# Altium footprint library Led.PcbLib: 54 footprints (part 2 of 4)
Each footprint in its own frame and in the unit in brackets; x right, y up, seen from the top. Pads: shape width x height; smd on the part's side, far side on the other; paste and mask are expansions set on the pad; w line width, h text height; cw(c..) or ccw(c..) is an arc to the next point about the centre after c.
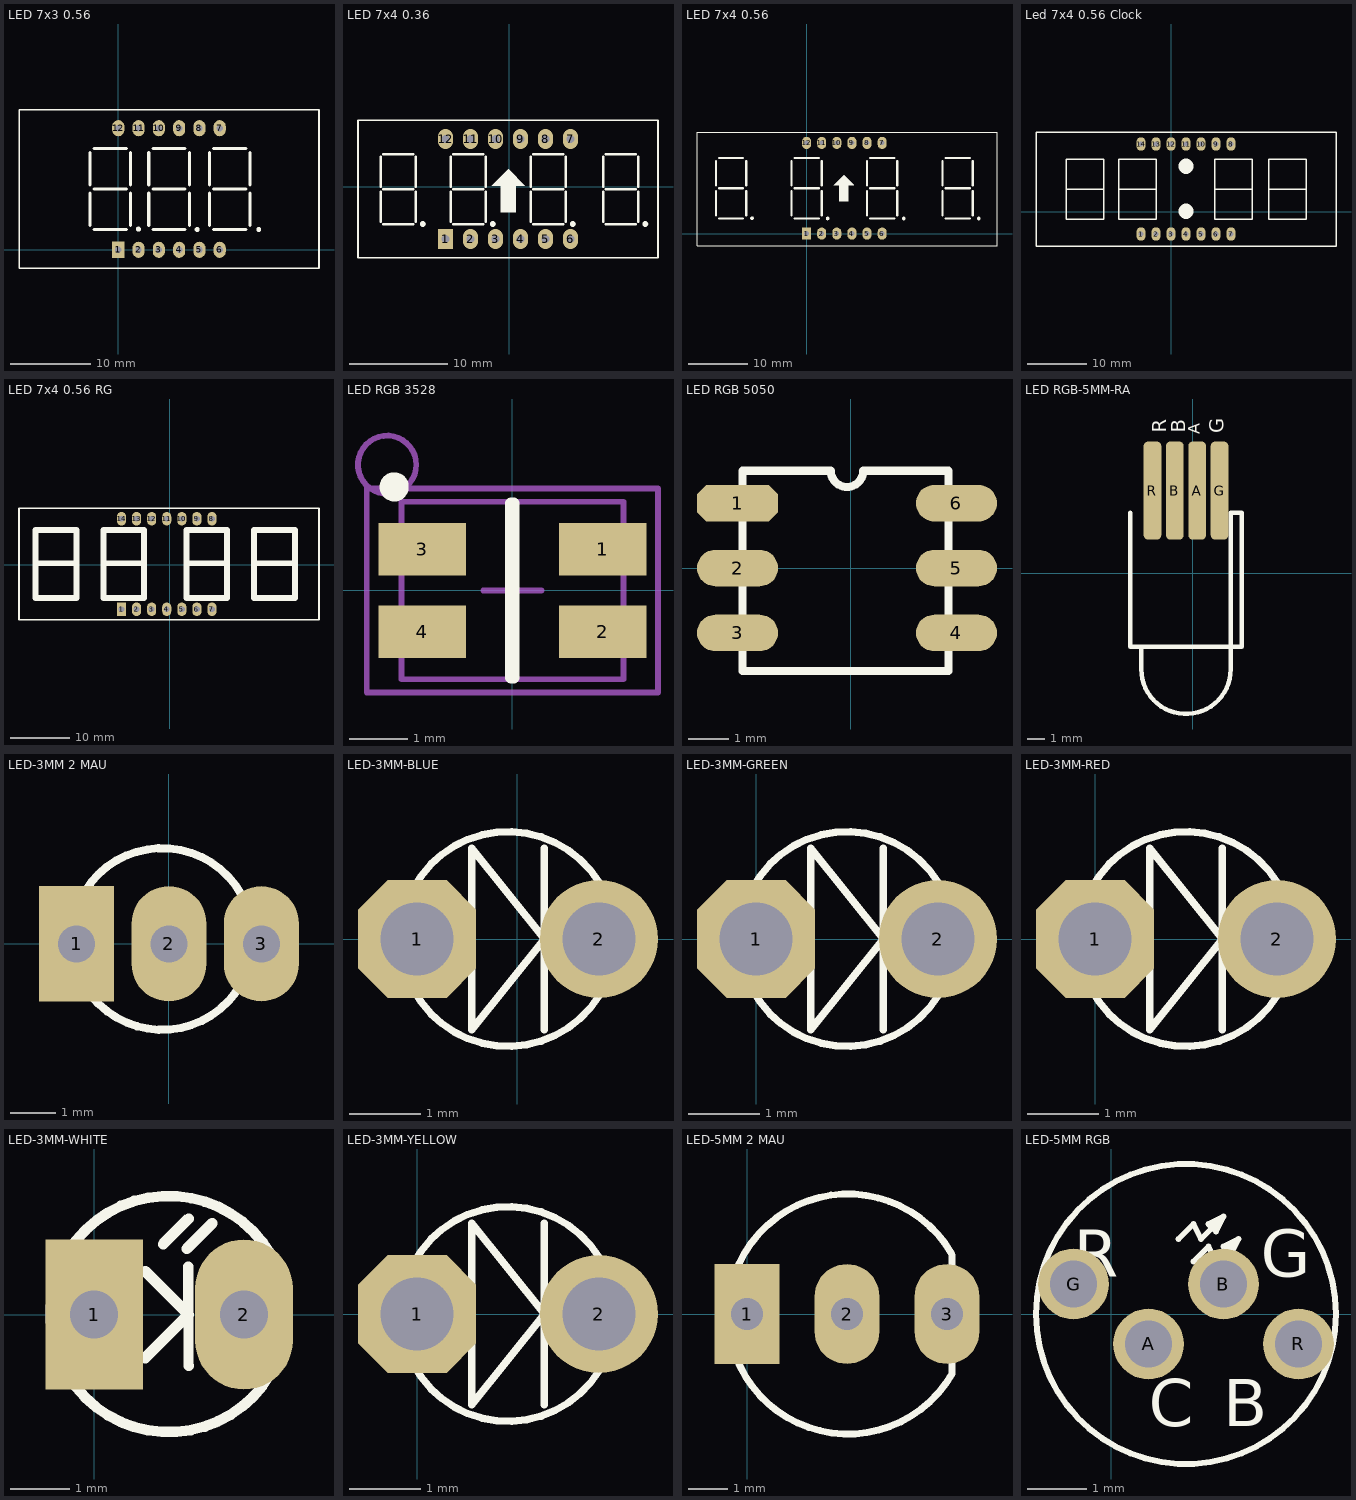
[diagram p1: the footprints below, top view; thin cyan lines are the x and y axes]

## LED 7x3 0.56 [mil]
height 300
pads (12):
  rect 60x80 hole 31: 1(0,0)
  oval 60x80 hole 31: 2(100,0) 3(200,0) 4(300,0) 5(400,0) 6(500,0) 7(500,600) 8(400,600) 9(300,600) 10(200,600) 11(100,600) 12(0,600)
Top Overlay:
  circle w12: c99,102 r6
  circle w12: c389,100 r6
  circle w12: c693,100 r6
  lines w7: 990,-90 -490,-90 -490,690 990,690
  lines w8: 990,-90 990,690
  lines w15: -140,120 -140,280 ; -140,120 -140,280 ; -140,120 -140,280 ; -140,120 -140,280 ; -140,320 -140,480 ; -140,320 -140,480 ; -140,320 -140,480 ; -140,320 -140,480 ; -120,300 40,300 ; -120,300 40,300 ; -120,300 40,300 ; -120,300 40,300 ; 60,120 60,280 ; 60,120 60,280 ; 60,120 60,280 ; 60,120 60,280 ; 60,320 60,480 ; 60,320 60,480 ; 60,320 60,480 ; 60,320 60,480 ; 150,120 150,280 ; 150,120 150,280 ; 150,120 150,280 ; 150,120 150,280 ; 150,320 150,480 ; 150,320 150,480 ; 150,320 150,480 ; 150,320 150,480 ; 170,300 330,300 ; 170,300 330,300 ; 170,300 330,300 ; 170,300 330,300 ; 350,120 350,280 ; 350,120 350,280 ; 350,120 350,280 ; 350,120 350,280 ; 350,320 350,480 ; 350,320 350,480 ; 350,320 350,480 ; 350,320 350,480 ; 450,120 450,280 ; 450,120 450,280 ; 450,120 450,280 ; 450,120 450,280 ; 450,120 450,280 ; 450,120 450,280 ; 450,120 450,280 ; 450,120 450,280 ; 450,320 450,480 ; 450,320 450,480 ; 450,320 450,480 ; 450,320 450,480 ; 450,320 450,480 ; 450,320 450,480 ; 450,320 450,480 ; 450,320 450,480 ; 470,100 630,100 ; 470,100 630,100 ; 470,100 630,100 ; 470,100 630,100 ; 470,300 630,300 ; 470,300 630,300 ; 470,300 630,300 ; 470,300 630,300 ; 470,300 630,300 ; 470,300 630,300 ; 470,300 630,300 ; 470,300 630,300 ; 470,500 630,500 ; 470,500 630,500 ; 470,500 630,500 ; 470,500 630,500 ; 650,120 650,280 ; 650,120 650,280 ; 650,120 650,280 ; 650,120 650,280 ; 650,120 650,280 ; 650,120 650,280 ; 650,120 650,280 ; 650,120 650,280 ; 650,320 650,480 ; 650,320 650,480 ; 650,320 650,480 ; 650,320 650,480 ; 650,320 650,480 ; 650,320 650,480 ; 650,320 650,480 ; 650,320 650,480 ; -120,100 40,100 -120,100 ; -120,500 40,500 -120,500 ; 170,100 330,100 170,100 ; 170,500 330,500 170,500

## LED 7x4 0.36 [mil]
height 300
pads (12):
  rect 60x80 hole 31: 1(-255,-210)
  oval 60x80 hole 31: 2(-155,-210) 3(-55,-210) 4(45,-210) 5(145,-210) 6(245,-210) 7(245,190) 8(145,190) 9(45,190) 10(-55,190) 11(-155,190) 12(-255,190)
Top Overlay:
  circle w12: c254,-150 r6
  circle w12: c544,-150 r6
  circle w12: c-346,-150 r6
  circle w12: c-66,-150 r6
  region: -71,3 -5,69 -3,69 62,4 62,3 25,3 25,-103 -34,-103 -34,3
  lines w7: -605,-285 -605,265 595,265 595,-285 -605,-285
  lines w10: -515,-140 -515,-20 ; -515,0 -515,120 ; -505,-150 -385,-150 ; -505,130 -385,130 ; -375,-140 -375,-20 ; -375,0 -375,120 ; -235,-140 -235,-20 ; -235,0 -235,120 ; -225,-150 -105,-150 ; -225,130 -105,130 ; -95,-140 -95,-20 ; -95,0 -95,120 ; 85,-140 85,-20 ; 85,0 85,120 ; 95,-150 215,-150 ; 95,130 215,130 ; 225,-140 225,-20 ; 225,0 225,120 ; 375,-140 375,-20 ; 375,0 375,120 ; 385,-150 505,-150 ; 385,130 505,130 ; 515,-140 515,-20 ; 515,0 515,120 ; -505,-10 -385,-10 -505,-10 ; -225,-10 -105,-10 -225,-10 ; 95,-10 215,-10 95,-10 ; 385,-10 505,-10 385,-10
3D body "User Library-7-seg-4_asm.STEP": height 169.69, standoff -350, extent -595.55,-291.18 585.55,260

## LED 7x4 0.56 [mil]
height 300
pads (12):
  rect 60x80 hole 31: 1(0,0)
  oval 60x80 hole 31: 2(100,0) 3(200,0) 4(300,0) 5(400,0) 6(500,0) 7(500,600) 8(400,600) 9(300,600) 10(200,600) 11(100,600) 12(0,600)
Top Overlay:
  drawing of 155 lines, arcs and shapes, not listed
3D body "7seg2-4.STEP": height 364.96, standoff -87.8, extent -740.31,-69.02 1240,679.02

## Led 7x4 0.56 Clock [mil]
pads (14):
  oval 60x90 hole 32: 1(-200,-150) 2(-100,-150) 3(0,-150) 4(100,-150) 5(200,-150) 6(300,-150) 7(400,-150) 8(400,450) 9(300,450) 10(200,450) 11(100,450) 12(0,450) 13(-100,450) 14(-200,450)
Top Overlay:
  lines w10: -700,150 -450,150 ; -350,150 -100,150 ; 290,150 540,150 ; 650,150 900,150 ; -900,-230 1100,-230 1100,530 -900,530 -900,-230 ; -700,-50 -700,350 -450,350 -450,-50 -700,-50 ; -350,-50 -350,350 -100,350 -100,-50 -350,-50 ; 290,-50 290,350 540,350 540,-50 290,-50 ; 650,-50 650,350 900,350 900,-50 650,-50
  lines w100: 100,0 ccw(c72,4) 100.28,4 ; 100,300 ccw(c72,304) 100.28,304
3D body "7seg clock.step": height 280.13, standoff -196.25, extent -890.15,-224.01 1090.16,524.02

## LED 7x4 0.56 RG [mil]
pads (14):
  rect 60x90 hole 39.37: 1(-320,-295)
  oval 60x90 hole 39.37: 2(-220,-295) 3(-120,-295) 4(-20,-295) 5(80,-295) 6(180,-295) 7(280,-295) 8(280,305) 9(180,305) 10(80,305) 11(-20,305) 12(-120,305) 13(-220,305) 14(-320,305)
Top Overlay:
  lines w10: -1000,-365 -1000,375 990,375 990,-365 -1000,-365
  lines w39.37: -885,10 -620,10 ; -435,10 -170,10 ; 115,10 380,10 ; 565,10 830,10 ; -890,-220 -890,230 -620,230 -620,-220 -890,-220 ; -440,-220 -440,230 -170,230 -170,-220 -440,-220 ; 110,-220 110,230 380,230 380,-220 110,-220 ; 560,-220 560,230 830,230 830,-220 560,-220
3D body "7seg2-4.STEP": height 364.96, standoff -87.8, extent -965.16,-370 1015.16,378.03

## LED RGB 3528 [mm] "Chip LED, 4-Leads, Body 2.8x3.5mm (max), Pitch 1.42mm, IPC Medium Density"
height 1.9
pads (4):
  rect 1.5x0.9 smd: 1(1.55,0.707) 2(1.55,-0.71) 3(-1.55,0.707) 4(-1.55,-0.707)
Top Overlay:
  circle w0.25: c-2.03,1.778 r0.125
  lines w0.2: -0.025,-1.5 0.025,-1.5 0.025,1.5 -0.025,1.5 -0.025,-1.5
Mechanical 13:
  circle w0.1: c-2.151,2.159 r0.5
  lines w0.1: -1.905,-1.524 1.905,-1.524 1.905,1.524 -1.905,1.524 -1.905,-1.524
Mechanical 15:
  lines w0.1: -0.5,0 0.5,0 ; 0,-0.5 0,0.5 ; -2.5,-1.75 2.5,-1.75 2.5,1.75 -2.5,1.75 -2.5,-1.75
3D body "WL-SBTW_1411_RV.stp": height 1.87, standoff -0.03, extent -1.75,-1.4 1.75,1.4

## LED RGB 5050 [mm]
pads (6):
  oct 2x0.9 smd: 1(-2.794,1.6)
  oval 2x0.9 smd: 2(-2.794,0) 3(-2.794,-1.6) 4(2.606,-1.6) 5(2.606,0) 6(2.606,1.6)
Top Overlay:
  lines w0.2: -2.667,-2.54 -2.667,2.4 -0.494,2.4 ccw(c-0.094,2.4) 0.306,2.4 2.413,2.4 2.413,-2.54 -2.667,-2.54
3D body "User Library-smd_led_5050.step": height 1.6, standoff 0, extent -2.777,-2.54 2.523,2.46

## LED RGB-5MM-RA [mil] "LED RGB Right Angle 5mm"
height 5
pads (4):
  rrect50% 39.37x220 smd paste+1.5 mask+1.5: A(10,185) B(-40,185) G(60,185) R(-90,185)
Top Overlay:
  lines w10: -140,135 -140,-165 110,-165 110,135 85,135 85,-165 85,-215 cw(c-15,-215) -115,-215 -115,-165
  text "G" at 69.77,313.32 h31.5
  text "A" at 24.77,311.4 h45
  text "R" at -58.97,314.49 h31.5
  text "B" at -16.79,314.49 h31.5
3D body: height 100, standoff -100, extent -115.18,-301.8 83.78,-102.65
3D body: height 99.8, standoff -99.8, extent -115.3,-198.8 83.91,1.2
3D body: height 5, standoff 0, extent -105.68,-298.7 74.45,281.58

## LED-3MM 2 MAU [mil] "LED 3 PIN, 3ly Two colour"
height 300
pads (3):
  rect 65x100 hole 32: 1(-80,0)
  oval 65x100 hole 32: 2(0,0) 3(80,0)
Top Overlay:
  lines w7: 63,-34 63,42
  lines w7.01: 62.87,42.48 ccw(c-5.92,4.16) 62.97,-33.98
3D body "User Library-LED RG.step": height 293.12, standoff -235.62, extent -88.58,-80 88.58,77.48

## LED-3MM-BLUE [mil]
pads (2):
  oct 65x65 hole 40: 1(-55,0)
  round 65 hole 40: 2(45,0)
Top Overlay:
  circle w4: c-5,0 r59.06
  lines w4: 15,-50 15,0 ; 15,50 15,0 ; 15,0 -25,-50 -25,50 15,0
3D body "User Library-LED_d3-BLU.STEP": height 184.06, standoff -110.24, extent -72.46,-64.95 54.06,64.96

## LED-3MM-GREEN [mil]
pads (2):
  oct 65x65 hole 40: 1(0,0)
  round 65 hole 40: 2(100,0)
Top Overlay:
  circle w4: c50,0 r59.06
  lines w4: 70,-50 70,0 ; 70,50 70,0 ; 70,0 30,50 30,-50 70,0
3D body "User Library-LED_d3-GRN.STEP": height 182.09, standoff -112.2, extent -15,-69.91 111.51,60

## LED-3MM-RED [mil]
pads (2):
  oct 65x65 hole 40: 1(0,0)
  round 65 hole 40: 2(100,0)
Top Overlay:
  circle w4: c50,0 r59.06
  lines w4: 70,-50 70,0 ; 70,50 70,0 ; 70,0 30,50 30,-50 70,0
3D body "User Library-LED-D3R.step": height 181.1, standoff -255.91, extent -27.18,-77.48 117.18,80

## LED-3MM-WHITE [mil] "LED 2 PIN, 3ly Only colour"
height 300
pads (2):
  rect 65x100 hole 32: 1(0,0)
  oval 65x100 hole 32: 2(100,0)
Top Overlay:
  lines w7: 34,-29 63,0 34,29 ; 46,47 63,64 ; 62,44 79,61 ; 63,-34 63,32 ; 117.92,-39.35 117.92,39.84
  lines w7.01: 117.57,-39.74 cw(c49.8,0.35) 117.72,40.19
3D body "SW3DPS-LED DIP 3MM-DEFAULT.STEP": height 217.14, standoff -117.51, extent -24.8,-74.81 112.99,74.8

## LED-3MM-YELLOW [mil]
pads (2):
  oct 65x65 hole 40: 1(0,0)
  round 65 hole 40: 2(100,0)
Top Overlay:
  circle w4: c50,0 r59.06
  lines w4: 70,-50 70,0 ; 70,50 70,0 ; 70,0 30,50 30,-50 70,0
3D body "User Library-LED-D3Y.step": height 181.1, standoff -255.91, extent -27.18,-77.48 117.18,80

## LED-5MM 2 MAU [mil] "LED 3 PIN, 5 ly , Two colour"
height 300
pads (3):
  rect 65x100 hole 32: 1(0,0)
  oval 65x100 hole 32: 2(100,0) 3(200,0)
Top Overlay:
  lines w7: 204.51,60.71 ccw(c101,0) 204.94,-59.97 ; 205,-59 205,59
3D body "User Library-5mmBiColorLED.step": height 426.6, standoff -102.4, extent -16,-115.98 210,115.98

## LED-5MM RGB [mm]
pads (4):
  round 1.2 hole 0.8: A(0.635,-0.508) B(1.905,0.508) G(-0.635,0.508) R(3.175,-0.508)
Top Overlay:
  circle w0.102: c1.27,0 r2.54
  lines w0.102: 1.143,1.27 1.397,1.524 1.524,1.27 1.905,1.651 ; 1.397,0.889 1.651,1.143 1.778,0.889 2.159,1.27 ; 1.718,1.464 1.651,1.524 ; 1.972,1.083 1.905,1.143 ; 1.651,1.524 1.778,1.397 1.905,1.651 ; 1.651,1.524 1.905,1.651 ; 1.905,1.143 2.032,1.016 2.159,1.27 ; 1.905,1.143 2.159,1.27
  text "R" at -0.635,0.635 h0.8
  text "B" at 1.905,-1.905 h0.8
  text "G" at 2.54,0.635 h0.8
  text "C" at 0.635,-1.905 h0.8
3D body: height 2.79, standoff 1.78, extent -1.401,-2.667 3.912,2.656
3D body: height 9.4, standoff 4.32, extent -1.27,-2.54 3.783,2.518
3D body: height 6.86, standoff 1.78, extent -1.27,-2.54 3.79,2.53
3D body: height 4.06, standoff 3.81, extent 1.27,0.406 1.524,0.66
3D body: height 4.06, standoff 3.81, extent -0.025,0.356 0.203,0.711
3D body: height 1.52, standoff -3.05, extent -0.876,0.203 -0.241,0.838
3D body: height 4.06, standoff 3.81, extent 0.356,-0.965 0.914,0.864
3D body: height 3.81, standoff 1.27, extent 1.067,0.216 2.159,0.851
3D body: height 3.81, standoff 1.27, extent -0.889,0.203 0.203,0.838
3D body: height 1.27, standoff -3.05, extent 1.524,0.216 2.159,0.851
3D body: height 3.81, standoff 1.27, extent 0.33,-0.864 0.965,0.229
3D body: height 1.52, standoff -3.05, extent 0.33,-0.851 0.965,-0.216
3D body: height 4.06, standoff 3.81, extent 0.457,0 0.813,0.229
3D body: height 3.81, standoff 1.27, extent 2.464,-0.838 3.556,-0.203
3D body: height 1.52, standoff -3.05, extent 2.908,-0.838 3.543,-0.203
3D body: height 4.06, standoff 3.81, extent 2.464,-0.711 2.692,-0.356
3D body: height 4.06, standoff 3.81, extent 0.381,-0.813 2.21,-0.254